# Altium schematic symbol library testLibrary.SCHLIB: 6 symbols
Pins are listed as number, name and electrical type; pins without a type are passive.

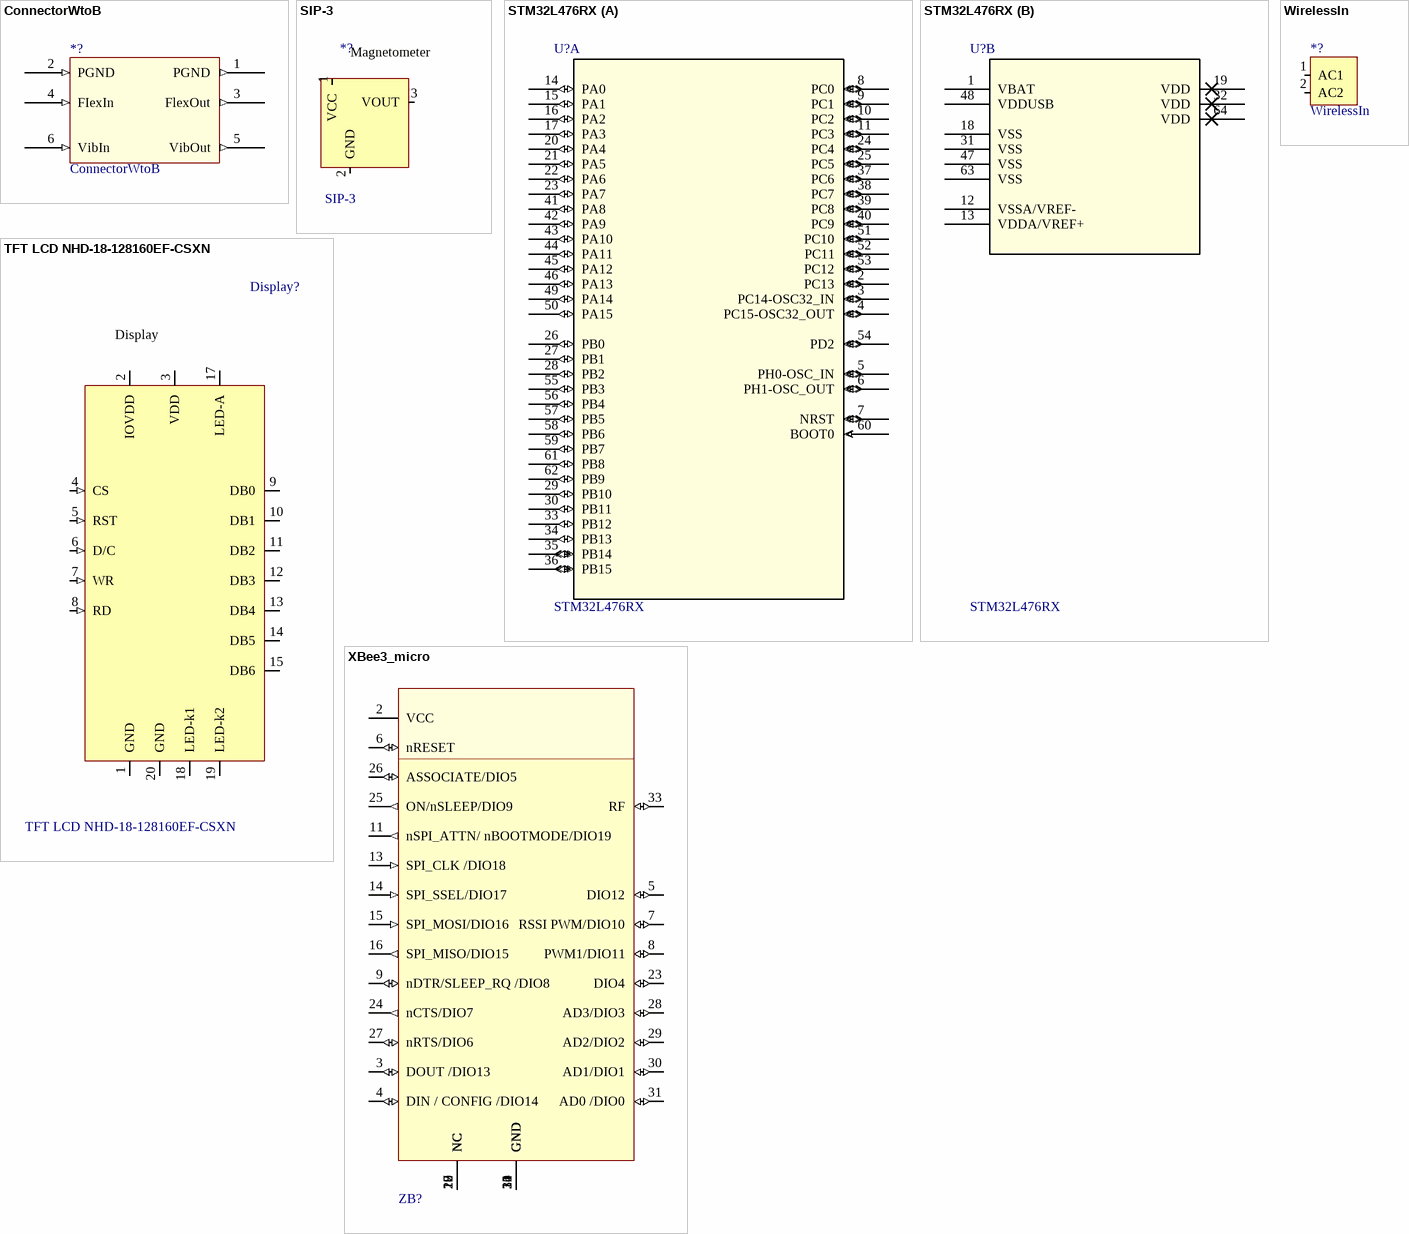
[diagram p0: symbols ConnectorWtoB to XBee3_micro]

## ConnectorWtoB
designator *?
pins: 1 PGND (out), 2 PGND (in), 3 FlexOut (out), 4 FIexIn (in), 5 VibOut (out), 6 VibIn (in)

## SIP-3
designator *?
footprint SIP-3
pins: 1 VCC (power), 2 GND (power), 3 VOUT (out)
text: Magnetometer

## STM32L476RX
designator U?
Imported; Vendor: ST Microelectronics; Copyright: Copyright (C) 2016 Accelerated Designs. All rights reserved; Manufacturer_Part_Number: stm32l476rx; Value: Value; Type: Type; RefDes: RefDes
footprint LQFP64-10x10mm
part A pins: 2 PC13 (io), 3 PC14-OSC32_IN (io), 4 PC15-OSC32_OUT (io), 5 PH0-OSC_IN (io), 6 PH1-OSC_OUT (io), 7 NRST (io), 8 PC0 (io), 9 PC1 (io), 10 PC2 (io), 11 PC3 (io), 14 PA0 (io), 15 PA1 (io), 16 PA2 (io), 17 PA3 (io), 20 PA4 (io), 21 PA5 (io), 22 PA6 (io), 23 PA7 (io), 24 PC4 (io), 25 PC5 (io), 26 PB0 (io), 27 PB1 (io), 28 PB2 (io), 29 PB10 (io), 30 PB11 (io), 33 PB12 (io), 34 PB13 (io), 35 PB14 (io), 36 PB15 (io), 37 PC6 (io), 38 PC7 (io), 39 PC8 (io), 40 PC9 (io), 41 PA8 (io), 42 PA9 (io), 43 PA10 (io), 44 PA11 (io), 45 PA12 (io), 46 PA13 (io), 49 PA14 (io), 50 PA15 (io), 51 PC10 (io), 52 PC11 (io), 53 PC12 (io), 54 PD2 (io), 55 PB3 (io), 56 PB4 (io), 57 PB5 (io), 58 PB6 (io), 59 PB7 (io), 60 BOOT0 (in), 61 PB8 (io), 62 PB9 (io)
part B pins: 1 VBAT (power), 12 VSSA/VREF- (power), 13 VDDA/VREF+ (power), 18 VSS (power), 19 VDD (power), 31 VSS (power), 32 VDD (power), 47 VSS (power), 48 VDDUSB (power), 63 VSS (power), 64 VDD (power)

## TFT LCD NHD-18-128160EF-CSXN
designator Display?
footprint LCD TFT Display
pins: 1 GND (power), 2 IOVDD (power), 3 VDD (power), 4 CS (in), 5 RST (in), 6 D/C (in), 7 WR (in), 8 RD (in), 9 DB0 (io), 10 DB1 (io), 11 DB2 (io), 12 DB3 (io), 13 DB4 (io), 14 DB5 (io), 15 DB6 (io), 17 LED-A (power), 18 LED-k1 (power), 19 LED-k2 (power), 20 GND (power)
text: Display

## WirelessIn
designator *?
footprint WirelessIn
pins: 1 AC1 (in), 2 AC2 (in)

## XBee3_micro
designator ZB?, comment ZigBee  (value not drawn)
ComponentLink1Description: RefMan; ComponentLink1URL: https://media.digikey.com/pdf/Data%20Sheets/Digi%20International%20PDFs/XBee3_RF_Module_HRM_10-6-17.pdf; ComponentLink2Description: uSERmANUAL; ComponentLink2URL: https://www.digi.com/resources/documentation/digidocs/90001539/#containers/cont_operation.htm%3FTocPath%3DOperation%7C_____0
footprint Digi_zigbee
pins: 1 GND (power) "Ground.", 2 VCC (power) "Power supply.", 3 DOUT /DIO13 (io) "UART data out", 4 DIN / CONFIG /DIO14 (io) "UART data in", 5 DIO12 (io) "GPIO.", 6 nRESET (io) "Device reset.", 7 RSSI PWM/DIO10 (io) "RX signal strength indicator /GPIO", 8 PWM1/DIO11 (io) "PWM", 9 nDTR/SLEEP_RQ /DIO8 (io) "Pin sleep control", 10 GND (power), 11 nSPI_ATTN/ nBOOTMODE/DIO19 (out) "Serial peripheral interface attebtion", 12 GND (power), 13 SPI_CLK /DIO18 (in), 14 SPI_SSEL/DIO17 (in), 15 SPI_MOSI/DIO16 (in), 16 SPI_MISO/DIO15 (out), 17 NC "Do not connect.", 18 NC, 19 NC, 20 NC, 21 GND (power), 22 NC, 23 DIO4 (io), 24 nCTS/DIO7 (out), 25 ON/nSLEEP/DIO9 (out), 26 ASSOCIATE/DIO5 (io), 27 nRTS/DIO6 (io), 28 AD3/DIO3 (io), 29 AD2/DIO2 (io), 30 AD1/DIO1 (io), 31 AD0 /DIO0 (io), 32 GND (power), 33 RF (io), 34 GND (power)